# EAGLE library part TAS5261 (library mytexas)
315-W Mono BTL Digital Amplifier Power Stage Source: http://focus.ti.com/lit/ds/symlink/tas5261.pdf
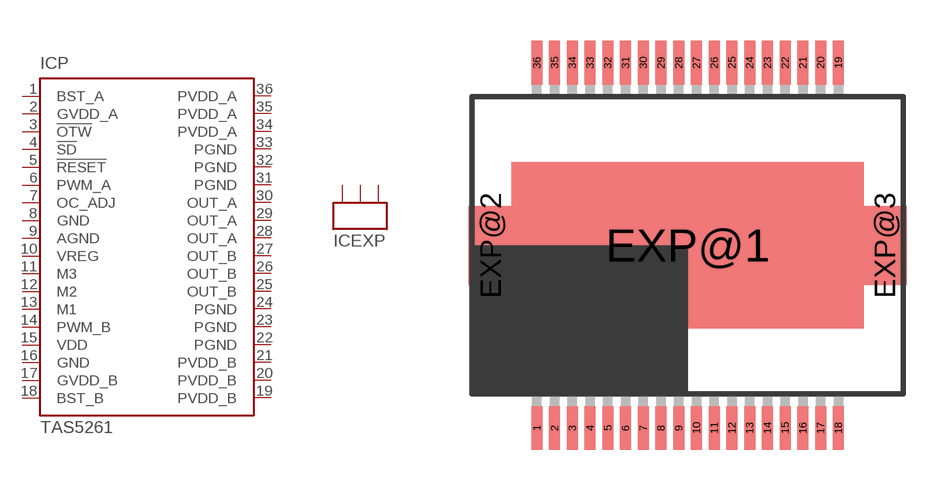
[diagram p87: symbol with the pads of DKD_R-PDSO-G36; footprint DKD_R-PDSO-G36]

Designator prefix IC; gates P=TAS5261 EXP=EXP-3

## TAS5261  [DKD_R-PDSO-G36]
1  P:BST_A  in
2  P:GVDD_A  in
3  P:!OTW  in
4  P:!SD  in
5  P:!RESET  in
6  P:PWM_A  in
7  P:OC_ADJ  in
8  P:GND  in
9  P:AGND  in
10  P:VREG  in
11  P:M3  in
12  P:M2  in
13  P:M1  in
14  P:PWM_B  in
15  P:VDD  in
16  P:GND  in
17  P:GVDD_B  in
18  P:BST_B  in
19  P:PVDD_B  in
20  P:PVDD_B  in
21  P:PVDD_B  in
22  P:PGND  in
23  P:PGND  in
24  P:PGND  in
25  P:OUT_B  in
26  P:OUT_B  in
27  P:OUT_B  in
28  P:OUT_A  in
29  P:OUT_A  in
30  P:OUT_A  in
31  P:PGND  in
32  P:PGND  in
33  P:PGND  in
34  P:PVDD_A  in
35  P:PVDD_A  in
36  P:PVDD_A  in
EXP@1  EXP:EXP  in
EXP@2  EXP:EXP  in
EXP@3  EXP:EXP  in

## Footprint DKD_R-PDSO-G36 (pad centres in mm)
Thermally-enhanced 36-pin PSOP3 PowerPAD(TM) package Source: http://focus.ti.com/lit/ds/symlink/tas5261.pdf
smd 0.4 x 1.6: 1 -5.525,-6.7; 2 -4.875,-6.7; 3 -4.225,-6.7; 4 -3.575,-6.7; 5 -2.925,-6.7; 6 -2.275,-6.7; 7 -1.625,-6.7; 8 -0.975,-6.7; 9 -0.325,-6.7; 10 0.325,-6.7; 11 0.975,-6.7; 12 1.625,-6.7; 13 2.275,-6.7; 14 2.925,-6.7; 15 3.575,-6.7; 16 4.225,-6.7; 17 4.875,-6.7; 18 5.525,-6.7; 19 5.525,6.7; 20 4.875,6.7; 21 4.225,6.7; 22 3.575,6.7; 23 2.925,6.7; 24 2.275,6.7; 25 1.625,6.7; 26 0.975,6.7; 27 0.325,6.7; 28 -0.325,6.7; 29 -0.975,6.7; 30 -1.625,6.7; 31 -2.275,6.7; 32 -2.925,6.7; 33 -3.575,6.7; 34 -4.225,6.7; 35 -4.875,6.7; 36 -5.525,6.7
smd 12.9 x 6.1: EXP@1 0,0
smd 1.6 x 2.9: EXP@2 -7.225,0; EXP@3 7.225,0